# Altium integrated library Linear Technology Power Management Battery Management.IntLib: 626 symbols (part 22 of 56)
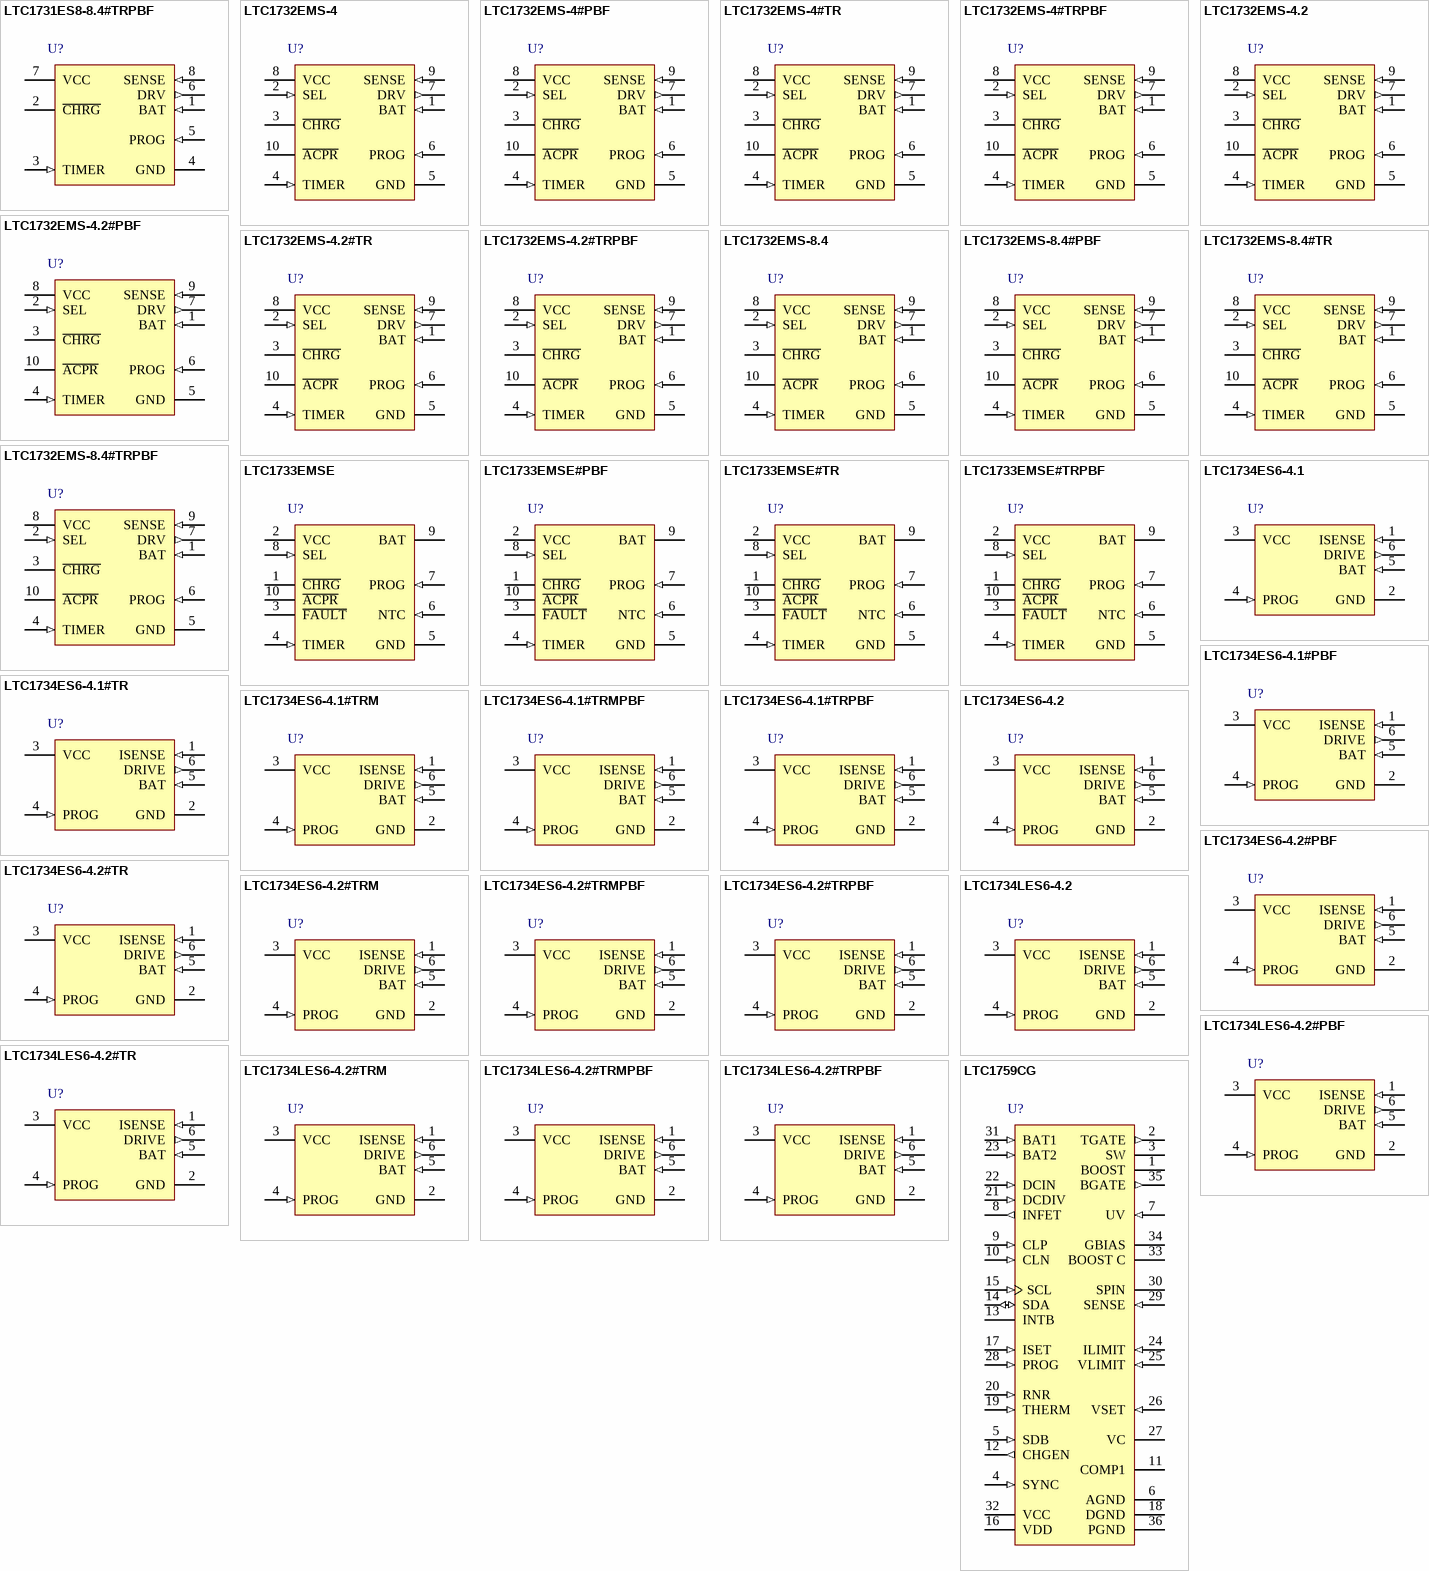
[diagram p43: symbols LTC1731ES8-8.4#TRPBF to LTC1759CG]

## LTC1734ES6-4.2#TRPBF
designator U?
Lithium-Ion Linear Battery Charger, 4.55 to 8 V Vin, 6-pin SOT23 (S6-6), -40 to 85 degC, Pb-Free, Tape and Reel; Manufacturer: Linear Technology; PartNumber: LTC1734ES6-4.2#TRPBF; Battery Chemistry: Li-Ion, Li-Polymer; Charge Termination: Microcontroller; Float Voltage: 4.2 V; Max Charge Current(A): 0.7; Number of Cells: 1; Vin Max(V): 8; Vin Min(V): 4.55; PackageVersion: Jun-10; PackageReference: S6-6; PackageDescription: 6-Pin Plastic TSOT-23, Body 2.9 x 1.63 mm, Pitch 0.95 mm; Supplier 1: Digi-Key; Supplier Part Number 1: LTC1734ES6-4.2#TRPBF-ND; Packing: Tape and Reel; RoHS: TRUE; Type of Charger: Linear; Mounting Technology: Surface Mount; Code_JEDEC: MO-193; ComponentLink1Description: Manufacturer URL; ComponentLink1URL: http://www.linear.com/; ComponentLink2Description: Datasheet; ComponentLink2URL: http://cds.linear.com/docs/en/datasheet/1734fs.pdf; ComponentLink3Description: Package Specification; ComponentLink3URL: http://cds.linear.com/docs/en/packaging/SOT_6_05-08-1636.pdf
footprint LT-S6-6-TSOT-23_N (SOT23, 6-Leads, Body 2.9x1.75mm, Pitch 0.95mm, IPC Medium Density)
footprint LT-S6-6-TSOT-23_L (SOT23, 6-Leads, Body 2.9x1.75mm, Pitch 0.95mm, IPC High Density)
footprint LT-S6-6-TSOT-23_M (SOT23, 6-Leads, Body 2.9x1.75mm, Pitch 0.95mm, IPC Low Density)
pins: 1 ISENSE (in) "Sense Node for Charge Current. Current from VCC passes through the internal current sense resistor and reappears at ISENSE to supply current to the external PNP emitter. The PNP collector provides charge current to the (See Datasheet)", 2 GND (power) "Ground. Provides a reference for the internal voltage regulator and a return for all internal circuits. When in the constant voltage mode, the LTC1734 will precisely regulate the voltage between the BAT and GND pins. The (See Datasheet)", 3 VCC (power) "Positive Input Supply Voltage. Supplies power to the internal control circuitry and external PNP transistor through the internal current sense resistor. This pin should be bypassed to ground with a capacitor in the range of (See Datasheet)", 4 PROG (in) "Charge Current Programming, Charge Current Monitor and manual Shutdown Pin. Provides a virtual reference voltage of 1.5V for an external resistor (RPROG) tied between this pin and ground that programs the battery charge (See Datasheet)", 5 BAT (in) "Battery Voltage Sense Input. A precision internal resistor divider sets the final float voltage on this pin. This divider is disconnected in the manual shutdown or sleep mode. When charging, approximately 34uA flows into the (See Datasheet)", 6 DRIVE (out) "Base Drive Output for the External PNP Pass Transistor. Provides a controlled sink current that drives the base of the PNP. This pin has current limiting protection for the LTC1734"

## LTC1734LES6-4.2
designator U?
Lithium-Ion Linear Battery Charger, 4.55 to 8 V Vin, 6-pin SOT23 (S6-6), -40 to 85 degC; Manufacturer: Linear Technology; PartNumber: LTC1734LES6-4.2; Battery Chemistry: Li-Ion, Li-Polymer; Charge Termination: Microcontroller; Float Voltage: 4.2 V; Max Charge Current(A): 0.18; Number of Cells: 1; Vin Max(V): 8; Vin Min(V): 4.55; PackageVersion: Jun-10; PackageReference: S6-6; PackageDescription: 6-Pin Plastic TSOT-23, Body 2.9 x 1.63 mm, Pitch 0.95 mm; RoHS: FALSE; Type of Charger: Linear; Mounting Technology: Surface Mount; Code_JEDEC: MO-193; ComponentLink1Description: Manufacturer URL; ComponentLink1URL: http://www.linear.com/; ComponentLink2Description: Datasheet; ComponentLink2URL: http://cds.linear.com/docs/en/datasheet/1734lf.pdf; ComponentLink3Description: Package Specification; ComponentLink3URL: http://cds.linear.com/docs/en/packaging/SOT_6_05-08-1636.pdf
footprint LT-S6-6-TSOT-23_N (SOT23, 6-Leads, Body 2.9x1.75mm, Pitch 0.95mm, IPC Medium Density)
footprint LT-S6-6-TSOT-23_L (SOT23, 6-Leads, Body 2.9x1.75mm, Pitch 0.95mm, IPC High Density)
footprint LT-S6-6-TSOT-23_M (SOT23, 6-Leads, Body 2.9x1.75mm, Pitch 0.95mm, IPC Low Density)
pins: 1 ISENSE (in) "Sense Node for Charge Current. Current from VCC passes through the internal current sense resistor and reappears at ISENSE to supply current to the external PNP emitter. The PNP collector provides charge current to the (See Datasheet)", 2 GND (power) "Ground. Provides a reference for the internal voltage regulator and a return for all internal circuits. When in the constant voltage mode, the LTC1734L will precisely regulate the voltage between the BAT and GND pins. The (See Datasheet)", 3 VCC (power) "Positive Input Supply Voltage. Supplies power to the internal control circuitry and external PNP transistor through the internal current sense resistor. This pin should be bypassed to ground with a capacitor in the range of (See Datasheet)", 4 PROG (in) "Charge Current Programming, Charge Current Monitor and manual Shutdown Pin. Provides a virtual reference voltage of 1.5V for an external resistor (RPROG) tied between this pin and ground that programs the battery charge (See Datasheet)", 5 BAT (in) "Battery Voltage Sense Input. A precision internal resistor divider sets the final float voltage on this pin. This divider is disconnected in the manual shutdown or sleep mode. When charging, approximately 34uA flows into the (See Datasheet)", 6 DRIVE (out) "Base Drive Output for the External PNP Pass Transistor. Provides a controlled sink current that drives the base of the PNP. This pin has current limiting protection for the LTC1734L"

## LTC1734LES6-4.2#PBF
designator U?
Lithium-Ion Linear Battery Charger, 4.55 to 8 V Vin, 6-pin SOT23 (S6-6), -40 to 85 degC, Pb-Free; Manufacturer: Linear Technology; PartNumber: LTC1734LES6-4.2#PBF; Battery Chemistry: Li-Ion, Li-Polymer; Charge Termination: Microcontroller; Float Voltage: 4.2 V; Max Charge Current(A): 0.18; Number of Cells: 1; Vin Max(V): 8; Vin Min(V): 4.55; PackageVersion: Jun-10; PackageReference: S6-6; PackageDescription: 6-Pin Plastic TSOT-23, Body 2.9 x 1.63 mm, Pitch 0.95 mm; RoHS: TRUE; Type of Charger: Linear; Mounting Technology: Surface Mount; Code_JEDEC: MO-193; ComponentLink1Description: Manufacturer URL; ComponentLink1URL: http://www.linear.com/; ComponentLink2Description: Datasheet; ComponentLink2URL: http://cds.linear.com/docs/en/datasheet/1734lf.pdf; ComponentLink3Description: Package Specification; ComponentLink3URL: http://cds.linear.com/docs/en/packaging/SOT_6_05-08-1636.pdf
footprint LT-S6-6-TSOT-23_N (SOT23, 6-Leads, Body 2.9x1.75mm, Pitch 0.95mm, IPC Medium Density)
footprint LT-S6-6-TSOT-23_L (SOT23, 6-Leads, Body 2.9x1.75mm, Pitch 0.95mm, IPC High Density)
footprint LT-S6-6-TSOT-23_M (SOT23, 6-Leads, Body 2.9x1.75mm, Pitch 0.95mm, IPC Low Density)
pins: 1 ISENSE (in) "Sense Node for Charge Current. Current from VCC passes through the internal current sense resistor and reappears at ISENSE to supply current to the external PNP emitter. The PNP collector provides charge current to the (See Datasheet)", 2 GND (power) "Ground. Provides a reference for the internal voltage regulator and a return for all internal circuits. When in the constant voltage mode, the LTC1734L will precisely regulate the voltage between the BAT and GND pins. The (See Datasheet)", 3 VCC (power) "Positive Input Supply Voltage. Supplies power to the internal control circuitry and external PNP transistor through the internal current sense resistor. This pin should be bypassed to ground with a capacitor in the range of (See Datasheet)", 4 PROG (in) "Charge Current Programming, Charge Current Monitor and manual Shutdown Pin. Provides a virtual reference voltage of 1.5V for an external resistor (RPROG) tied between this pin and ground that programs the battery charge (See Datasheet)", 5 BAT (in) "Battery Voltage Sense Input. A precision internal resistor divider sets the final float voltage on this pin. This divider is disconnected in the manual shutdown or sleep mode. When charging, approximately 34uA flows into the (See Datasheet)", 6 DRIVE (out) "Base Drive Output for the External PNP Pass Transistor. Provides a controlled sink current that drives the base of the PNP. This pin has current limiting protection for the LTC1734L"

## LTC1734LES6-4.2#TR
designator U?
Lithium-Ion Linear Battery Charger, 4.55 to 8 V Vin, 6-pin SOT23 (S6-6), -40 to 85 degC, Tape and Reel; Manufacturer: Linear Technology; PartNumber: LTC1734LES6-4.2#TR; Battery Chemistry: Li-Ion, Li-Polymer; Charge Termination: Microcontroller; Float Voltage: 4.2 V; Max Charge Current(A): 0.18; Number of Cells: 1; Vin Max(V): 8; Vin Min(V): 4.55; PackageVersion: Jun-10; PackageReference: S6-6; PackageDescription: 6-Pin Plastic TSOT-23, Body 2.9 x 1.63 mm, Pitch 0.95 mm; Supplier 1: Digi-Key; Supplier Part Number 1: LTC1734LES6-4.2TR-ND; Packing: Tape and Reel; RoHS: FALSE; Type of Charger: Linear; Mounting Technology: Surface Mount; Code_JEDEC: MO-193; ComponentLink1Description: Manufacturer URL; ComponentLink1URL: http://www.linear.com/; ComponentLink2Description: Datasheet; ComponentLink2URL: http://cds.linear.com/docs/en/datasheet/1734lf.pdf; ComponentLink3Description: Package Specification; ComponentLink3URL: http://cds.linear.com/docs/en/packaging/SOT_6_05-08-1636.pdf
footprint LT-S6-6-TSOT-23_N (SOT23, 6-Leads, Body 2.9x1.75mm, Pitch 0.95mm, IPC Medium Density)
footprint LT-S6-6-TSOT-23_L (SOT23, 6-Leads, Body 2.9x1.75mm, Pitch 0.95mm, IPC High Density)
footprint LT-S6-6-TSOT-23_M (SOT23, 6-Leads, Body 2.9x1.75mm, Pitch 0.95mm, IPC Low Density)
pins: 1 ISENSE (in) "Sense Node for Charge Current. Current from VCC passes through the internal current sense resistor and reappears at ISENSE to supply current to the external PNP emitter. The PNP collector provides charge current to the (See Datasheet)", 2 GND (power) "Ground. Provides a reference for the internal voltage regulator and a return for all internal circuits. When in the constant voltage mode, the LTC1734L will precisely regulate the voltage between the BAT and GND pins. The (See Datasheet)", 3 VCC (power) "Positive Input Supply Voltage. Supplies power to the internal control circuitry and external PNP transistor through the internal current sense resistor. This pin should be bypassed to ground with a capacitor in the range of (See Datasheet)", 4 PROG (in) "Charge Current Programming, Charge Current Monitor and manual Shutdown Pin. Provides a virtual reference voltage of 1.5V for an external resistor (RPROG) tied between this pin and ground that programs the battery charge (See Datasheet)", 5 BAT (in) "Battery Voltage Sense Input. A precision internal resistor divider sets the final float voltage on this pin. This divider is disconnected in the manual shutdown or sleep mode. When charging, approximately 34uA flows into the (See Datasheet)", 6 DRIVE (out) "Base Drive Output for the External PNP Pass Transistor. Provides a controlled sink current that drives the base of the PNP. This pin has current limiting protection for the LTC1734L"

## LTC1734LES6-4.2#TRM
designator U?
Lithium-Ion Linear Battery Charger, 4.55 to 8 V Vin, 6-pin SOT23 (S6-6), -40 to 85 degC, Mini Tape and Reel; Manufacturer: Linear Technology; PartNumber: LTC1734LES6-4.2#TRM; Battery Chemistry: Li-Ion, Li-Polymer; Charge Termination: Microcontroller; Float Voltage: 4.2 V; Max Charge Current(A): 0.18; Number of Cells: 1; Vin Max(V): 8; Vin Min(V): 4.55; PackageVersion: Jun-10; PackageReference: S6-6; PackageDescription: 6-Pin Plastic TSOT-23, Body 2.9 x 1.63 mm, Pitch 0.95 mm; Supplier 1: Digi-Key; Supplier Part Number 1: LTC1734LES6-4.2#TRMCT-ND; Packing: Mini Tape and Reel; RoHS: FALSE; Type of Charger: Linear; Mounting Technology: Surface Mount; Code_JEDEC: MO-193; ComponentLink1Description: Manufacturer URL; ComponentLink1URL: http://www.linear.com/; ComponentLink2Description: Datasheet; ComponentLink2URL: http://cds.linear.com/docs/en/datasheet/1734lf.pdf; ComponentLink3Description: Package Specification; ComponentLink3URL: http://cds.linear.com/docs/en/packaging/SOT_6_05-08-1636.pdf
footprint LT-S6-6-TSOT-23_N (SOT23, 6-Leads, Body 2.9x1.75mm, Pitch 0.95mm, IPC Medium Density)
footprint LT-S6-6-TSOT-23_L (SOT23, 6-Leads, Body 2.9x1.75mm, Pitch 0.95mm, IPC High Density)
footprint LT-S6-6-TSOT-23_M (SOT23, 6-Leads, Body 2.9x1.75mm, Pitch 0.95mm, IPC Low Density)
pins: 1 ISENSE (in) "Sense Node for Charge Current. Current from VCC passes through the internal current sense resistor and reappears at ISENSE to supply current to the external PNP emitter. The PNP collector provides charge current to the (See Datasheet)", 2 GND (power) "Ground. Provides a reference for the internal voltage regulator and a return for all internal circuits. When in the constant voltage mode, the LTC1734L will precisely regulate the voltage between the BAT and GND pins. The (See Datasheet)", 3 VCC (power) "Positive Input Supply Voltage. Supplies power to the internal control circuitry and external PNP transistor through the internal current sense resistor. This pin should be bypassed to ground with a capacitor in the range of (See Datasheet)", 4 PROG (in) "Charge Current Programming, Charge Current Monitor and manual Shutdown Pin. Provides a virtual reference voltage of 1.5V for an external resistor (RPROG) tied between this pin and ground that programs the battery charge (See Datasheet)", 5 BAT (in) "Battery Voltage Sense Input. A precision internal resistor divider sets the final float voltage on this pin. This divider is disconnected in the manual shutdown or sleep mode. When charging, approximately 34uA flows into the (See Datasheet)", 6 DRIVE (out) "Base Drive Output for the External PNP Pass Transistor. Provides a controlled sink current that drives the base of the PNP. This pin has current limiting protection for the LTC1734L"

## LTC1734LES6-4.2#TRMPBF
designator U?
Lithium-Ion Linear Battery Charger, 4.55 to 8 V Vin, 6-pin SOT23 (S6-6), -40 to 85 degC, Pb-Free, Mini Tape and Reel; Manufacturer: Linear Technology; PartNumber: LTC1734LES6-4.2#TRMPBF; Battery Chemistry: Li-Ion, Li-Polymer; Charge Termination: Microcontroller; Float Voltage: 4.2 V; Max Charge Current(A): 0.18; Number of Cells: 1; Vin Max(V): 8; Vin Min(V): 4.55; PackageVersion: Jun-10; PackageReference: S6-6; PackageDescription: 6-Pin Plastic TSOT-23, Body 2.9 x 1.63 mm, Pitch 0.95 mm; Supplier 1: Digi-Key; Supplier Part Number 1: LTC1734LES6-4.2#TRMPBFTR-ND; Supplier 2: Digi-Key; Supplier Part Number 2: LTC1734LES6-4.2#TRMPBFCT-ND; Supplier 3: Digi-Key; Supplier Part Number 3: LTC1734LES6-4.2#TRMPBFDKR-ND; Supplier 4: Farnell; Supplier Part Number 4: 1663857RL; Supplier 5: Farnell; Supplier Part Number 5: 1663857; Packing: Mini Tape and Reel; RoHS: TRUE; Type of Charger: Linear; Mounting Technology: Surface Mount; Code_JEDEC: MO-193; ComponentLink1Description: Manufacturer URL; ComponentLink1URL: http://www.linear.com/; ComponentLink2Description: Datasheet; ComponentLink2URL: http://cds.linear.com/docs/en/datasheet/1734lf.pdf; ComponentLink3Description: Package Specification; ComponentLink3URL: http://cds.linear.com/docs/en/packaging/SOT_6_05-08-1636.pdf
footprint LT-S6-6-TSOT-23_N (SOT23, 6-Leads, Body 2.9x1.75mm, Pitch 0.95mm, IPC Medium Density)
footprint LT-S6-6-TSOT-23_L (SOT23, 6-Leads, Body 2.9x1.75mm, Pitch 0.95mm, IPC High Density)
footprint LT-S6-6-TSOT-23_M (SOT23, 6-Leads, Body 2.9x1.75mm, Pitch 0.95mm, IPC Low Density)
pins: 1 ISENSE (in) "Sense Node for Charge Current. Current from VCC passes through the internal current sense resistor and reappears at ISENSE to supply current to the external PNP emitter. The PNP collector provides charge current to the (See Datasheet)", 2 GND (power) "Ground. Provides a reference for the internal voltage regulator and a return for all internal circuits. When in the constant voltage mode, the LTC1734L will precisely regulate the voltage between the BAT and GND pins. The (See Datasheet)", 3 VCC (power) "Positive Input Supply Voltage. Supplies power to the internal control circuitry and external PNP transistor through the internal current sense resistor. This pin should be bypassed to ground with a capacitor in the range of (See Datasheet)", 4 PROG (in) "Charge Current Programming, Charge Current Monitor and manual Shutdown Pin. Provides a virtual reference voltage of 1.5V for an external resistor (RPROG) tied between this pin and ground that programs the battery charge (See Datasheet)", 5 BAT (in) "Battery Voltage Sense Input. A precision internal resistor divider sets the final float voltage on this pin. This divider is disconnected in the manual shutdown or sleep mode. When charging, approximately 34uA flows into the (See Datasheet)", 6 DRIVE (out) "Base Drive Output for the External PNP Pass Transistor. Provides a controlled sink current that drives the base of the PNP. This pin has current limiting protection for the LTC1734L"

## LTC1734LES6-4.2#TRPBF
designator U?
Lithium-Ion Linear Battery Charger, 4.55 to 8 V Vin, 6-pin SOT23 (S6-6), -40 to 85 degC, Pb-Free, Tape and Reel; Manufacturer: Linear Technology; PartNumber: LTC1734LES6-4.2#TRPBF; Battery Chemistry: Li-Ion, Li-Polymer; Charge Termination: Microcontroller; Float Voltage: 4.2 V; Max Charge Current(A): 0.18; Number of Cells: 1; Vin Max(V): 8; Vin Min(V): 4.55; PackageVersion: Jun-10; PackageReference: S6-6; PackageDescription: 6-Pin Plastic TSOT-23, Body 2.9 x 1.63 mm, Pitch 0.95 mm; Supplier 1: Digi-Key; Supplier Part Number 1: LTC1734LES6-4.2#TRPBF-ND; Packing: Tape and Reel; RoHS: TRUE; Type of Charger: Linear; Mounting Technology: Surface Mount; Code_JEDEC: MO-193; ComponentLink1Description: Manufacturer URL; ComponentLink1URL: http://www.linear.com/; ComponentLink2Description: Datasheet; ComponentLink2URL: http://cds.linear.com/docs/en/datasheet/1734lf.pdf; ComponentLink3Description: Package Specification; ComponentLink3URL: http://cds.linear.com/docs/en/packaging/SOT_6_05-08-1636.pdf
footprint LT-S6-6-TSOT-23_N (SOT23, 6-Leads, Body 2.9x1.75mm, Pitch 0.95mm, IPC Medium Density)
footprint LT-S6-6-TSOT-23_L (SOT23, 6-Leads, Body 2.9x1.75mm, Pitch 0.95mm, IPC High Density)
footprint LT-S6-6-TSOT-23_M (SOT23, 6-Leads, Body 2.9x1.75mm, Pitch 0.95mm, IPC Low Density)
pins: 1 ISENSE (in) "Sense Node for Charge Current. Current from VCC passes through the internal current sense resistor and reappears at ISENSE to supply current to the external PNP emitter. The PNP collector provides charge current to the (See Datasheet)", 2 GND (power) "Ground. Provides a reference for the internal voltage regulator and a return for all internal circuits. When in the constant voltage mode, the LTC1734L will precisely regulate the voltage between the BAT and GND pins. The (See Datasheet)", 3 VCC (power) "Positive Input Supply Voltage. Supplies power to the internal control circuitry and external PNP transistor through the internal current sense resistor. This pin should be bypassed to ground with a capacitor in the range of (See Datasheet)", 4 PROG (in) "Charge Current Programming, Charge Current Monitor and manual Shutdown Pin. Provides a virtual reference voltage of 1.5V for an external resistor (RPROG) tied between this pin and ground that programs the battery charge (See Datasheet)", 5 BAT (in) "Battery Voltage Sense Input. A precision internal resistor divider sets the final float voltage on this pin. This divider is disconnected in the manual shutdown or sleep mode. When charging, approximately 34uA flows into the (See Datasheet)", 6 DRIVE (out) "Base Drive Output for the External PNP Pass Transistor. Provides a controlled sink current that drives the base of the PNP. This pin has current limiting protection for the LTC1734L"

## LTC1759CG
designator U?
SMBus Charger with Integrated SMBus AcceleratorTM, 6.7 to 26 V Vin, 36-pin SOP (G-36), 0 to 70 degC; Manufacturer: Linear Technology; PartNumber: LTC1759CG; Battery Chemistry: Li-Ion, Li-Polymer, NiCd, NiMH, Lead Acid; Charge Termination: Microcontroller; Float Voltage: Adj; Max Charge Current(A): 8; Number of Cells: 1 to 4 (Li), 1 to 17 (Ni); Type of Charger: Switching, SMBus; Vin Max(V): 26; Vin Min(V): 6.7; PackageReference: G-36; PackageDescription: 36-Pin Plastic SSOP, Body 12.8 x 5.3 mm, Pitch 0.65 mm; Supplier 1: Digi-Key; Supplier Part Number 1: LTC1759CG-ND; RoHS: FALSE; Mounting Technology: Surface Mount; ComponentLink1Description: Manufacturer URL; ComponentLink1URL: http://www.linear.com/; ComponentLink2Description: Datasheet; ComponentLink2URL: http://cds.linear.com/docs/en/datasheet/1759fs.pdf; ComponentLink3Description: Package Specification; ComponentLink3URL: http://cds.linear.com/docs/en/packaging/SSOP_36_05-08-1640.pdf
footprint LT-G-36_N (SOP, 36-Leads, Body 13.1x5.6mm, Pitch 0.65mm, IPC Medium Density)
footprint LT-G-36_L (SOP, 36-Leads, Body 13.1x5.6mm, Pitch 0.65mm, IPC High Density)
footprint LT-G-36_M (SOP, 36-Leads, Body 13.1x5.6mm, Pitch 0.65mm, IPC Low Density)
pins: 1 BOOST "This pin is used to bootstrap and supply power for the topside power switch gate drive and control circuity. In normal operation, VBOOST is powered from an internally generated 8.6V regulator VGBIAS, VBOOST  approx= VCC + 9.(See Datasheet)", 2 TGATE (out) "This pin provides gate drive to the topside power FET. When TGATE is driven on, the gate voltage will be approximately equal to VSW + 6.6V. A series resistor of 5ohm to 10ohm should be used from this pin to the gate of the (See Datasheet)", 3 SW "This pin is the reference point for the floating topside gate drive circuitry. It is the common connection for the top and bottom side switches and the output inductor. This pin switches between ground and VCC with very high (See Datasheet)", 4 SYNC (in) "External Clock Synchronization Input. Pulse width range: 10% to 90%.", 5 SDB (in) "Active Low Digital Input. The charger is disabled when asserted. This pin is connected to the CHGEN pin to enable charger control through the SMBus interface.", 6 AGND (power) "DC Accurate Ground for Analog Circuitry.", 7 UV (in) "Charger Section Undervoltage Lockout Pin. The rising threshold is 6.7V with a hysteresis of 0.5V. Switching stops in undervoltage lockout. Connect this input to the input voltage source with no resistor divider. UV must be (See Datasheet)", 8 INFET (out) "Gate Drive to Input P-channel FET. For very low dropout applications, use an external P-channel FET to connect the adapter output and VCC. INFET is clamped to 7.8V below VCC.", 9 CLP (in) "Positive Input to the Input Current Limit Amplifier CL1. When used to limit supply current, a filter (R3 and C1 of Figure 10) is needed to filter out the switching noise. The threshold is set at 92mV.", 10 CLN (in) "Negative Input to the Input Current Limit Amplifier CL1. It should be connected to VCC (to the VCC bypass capacitor C2 for less noise).", 11 COMP1 "Compensation Node for the Input Current Limit Amplifier CL1. At input adapter current limit, this node rises to 1V. By forcing COMP1 low with an external transistor, amplifier CL1 will be defeated (no adapter current limit). (See Datasheet)", 12 CHGEN (out) "Digital Output to Enable Charger Function. Connect CHGEN to SDB.", 13 INTB (oc) "Active Low Interrupt Output to Host. Signals host that there has been a change of status in the charger registers and that the host should read the LTC1759 status registers to determine if any action on its part is required. (See Datasheet)", 14 SDA (io) "SMBus Data Signal from Main (Hostcontrolled) SMBus.", 15 SCL (in) "SMBus Clock Signal from Main (Host-Controlled) SMBus. External pull-up resistor is required.", 16 VDD (power) "Low Voltage Power Supply Input. Bypass this pin with 0.1uF.", 17 ISET (in) "Open-Drain CMOS Switch to DGND. An external resistor, RSET, is connected from ISET to the current programming input, the PROG pin of the battery charger section, which sets the range of the charging current.", 18 DGND (power) "Ground for Digital Circuitry and DACs. Should be connected to AGND at the negative terminal of the charger output filter capacitor.", 19 THERM (in) "Thermistor Force / Sense Pin to Smart Battery. See Electrical Characteristics table for more detail. Maximum allowed combined capacitance on THERM and RNR is 75pF.", 20 RNR (in) "Thermistor Force / Sense Pin to Smart Battery. See Electrical Characteristics table for more detail. Maximum allowed combined capacitance on THERM and RNR is 75pF.", 21 DCDIV (in) "Supply Divider Input. This is a high impedance comparator input with a 1V threshold (rising edge) and hysteresis.", 22 DCIN (in) "Input connected to the DC input source to monitor the DC input for power-fail condition.", 23 BAT2 (in) "Sensing Point for Voltage Control Loop. Connect this to the positive terminal of the battery.", 24 ILIMIT (in) "An external resistor is connected between this pin and DGND. The value of the external resistor programs the range and resolution of the programmed charger current. See Electrical Characteristics table for more information.", 25 VLIMIT (in) "An external resistor is connected between this pin and DGND. The value of the external resistor programs the range and resolution of the VSET divider. See Electrical Characteristics table for more information.", 26 VSET (in) "This is the tap point of the programmable resistor divider, which provides battery voltage feedback to the charger.", 27 VC "This is the control signal of the inner loop of the current mode PWM. Switching starts at 0.9V. Higher VC corresponds to higher charging current in normal operation. A capacitor of at least 0.33uF to AGND filters out noise (See Datasheet)", 28 PROG (in) "This pin is for programming the charging current and for system loop compensation. During normal operation, the pin voltage is approximately 2.465V.", 29 SENSE (in) "Current Amplifier CA1 Input. Sensing must be at the positive terminal of the battery.", 30 SPIN "This pin is for the internal amplifier CA1 bias. It must be connected to RSENSE as shown in Figure 1.", 31 BAT1 (in) "Current Amplifier CA1 Input.", 32 VCC (power) "Power Input for Battery Charger Section. Bypass this pin with 0.47uF.", 33 BOOST C "This pin is used to bootstrap and supply the current sense amplifier CA1 for very low dropout conditions. VCC can be as low as only 0.4V above the battery voltage. A diode and a capacitor are needed to get the voltage from (See Datasheet)", 34 GBIAS (power) "8.6V Regulator Output for Bootstrapping VBOOST and VBOOSTC. A bypass capacitor of at least 2uF is needed. Switching will stop if VBOOST drops below 7.1V.", 35 BGATE (out) "Drives the gate of the bottom external N-channel FET of the charger buck converter.", 36 PGND (power) "High Current Ground Return for Charger Gate Drivers."

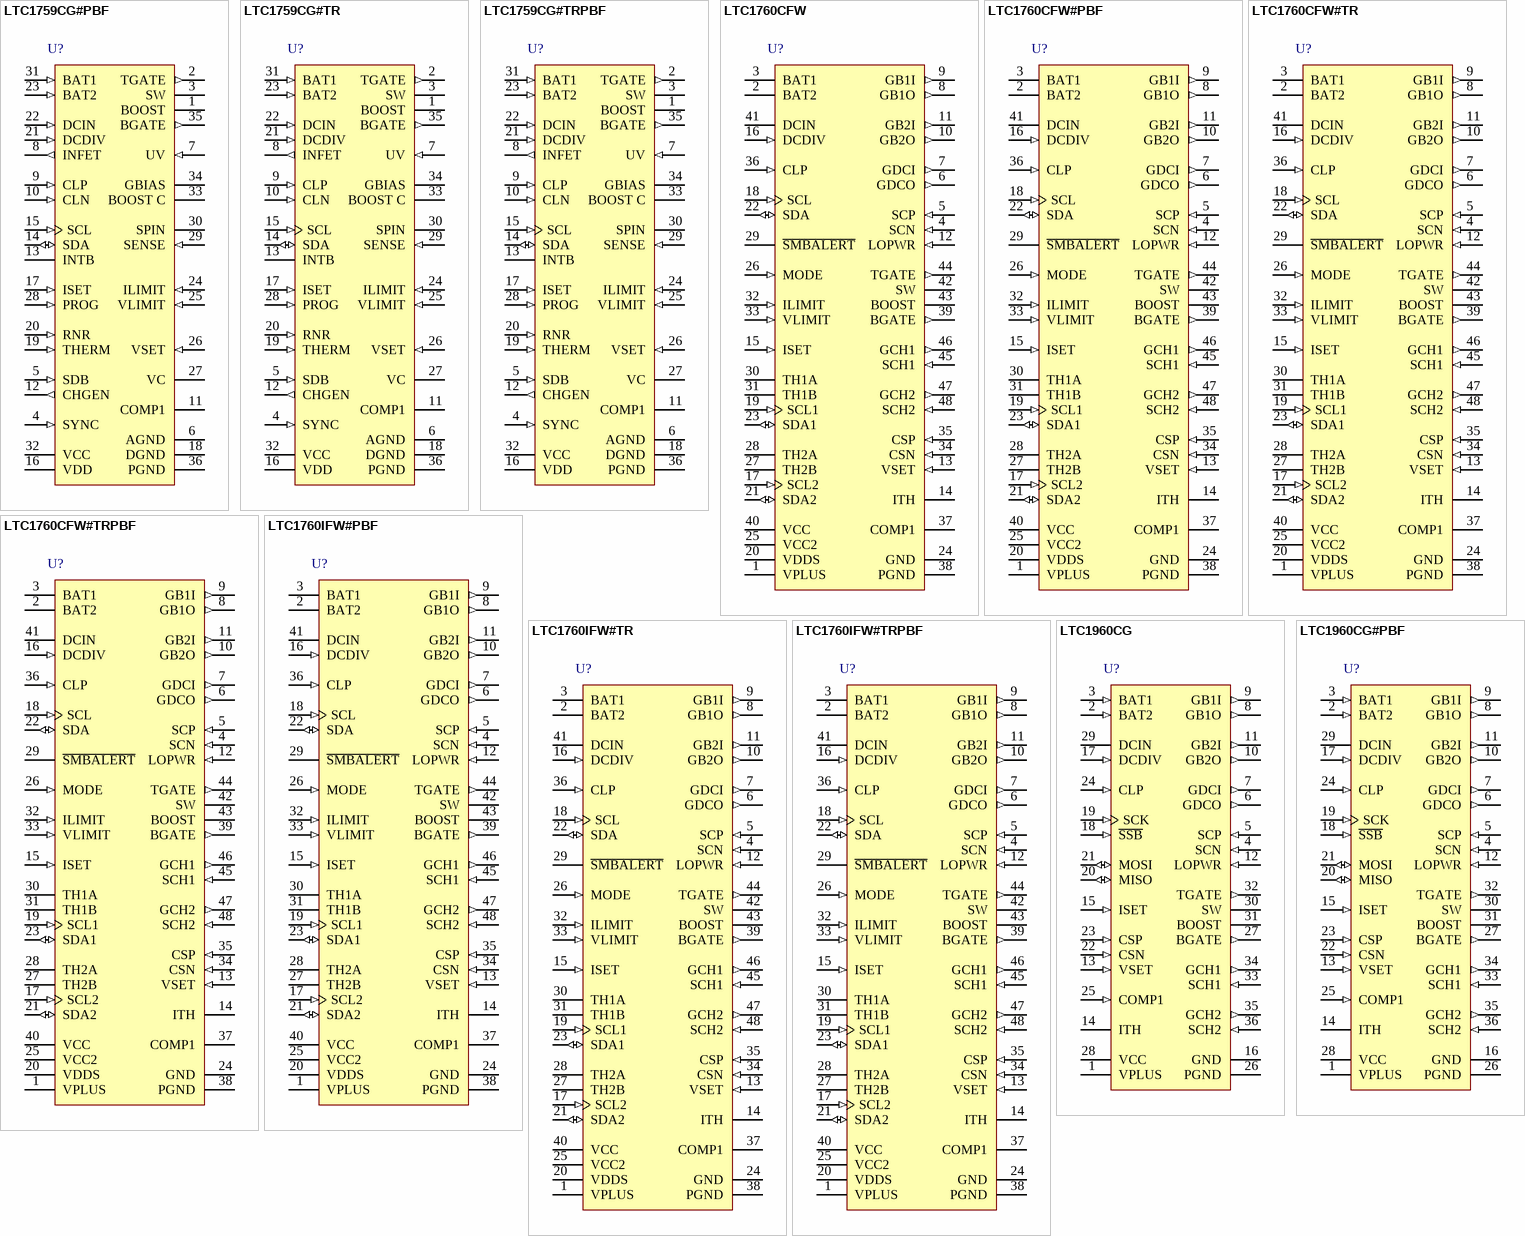
[diagram p9: symbols LTC1759CG#PBF to LTC1960CG#PBF]

## LTC1759CG#PBF
designator U?
SMBus Charger with Integrated SMBus AcceleratorTM, 6.7 to 26 V Vin, 36-pin SOP (G-36), 0 to 70 degC, Pb-Free; Manufacturer: Linear Technology; PartNumber: LTC1759CG#PBF; Battery Chemistry: Li-Ion, Li-Polymer, NiCd, NiMH, Lead Acid; Charge Termination: Microcontroller; Float Voltage: Adj; Max Charge Current(A): 8; Number of Cells: 1 to 4 (Li), 1 to 17 (Ni); Type of Charger: Switching, SMBus; Vin Max(V): 26; Vin Min(V): 6.7; PackageReference: G-36; PackageDescription: 36-Pin Plastic SSOP, Body 12.8 x 5.3 mm, Pitch 0.65 mm; Supplier 1: Digi-Key; Supplier Part Number 1: LTC1759CG#PBF-ND; Supplier 2: Farnell; Supplier Part Number 2: 1648018; Supplier 3: Newark; Supplier Part Number 3: 58M0701; RoHS: TRUE; Mounting Technology: Surface Mount; ComponentLink1Description: Manufacturer URL; ComponentLink1URL: http://www.linear.com/; ComponentLink2Description: Datasheet; ComponentLink2URL: http://cds.linear.com/docs/en/datasheet/1759fs.pdf; ComponentLink3Description: Package Specification; ComponentLink3URL: http://cds.linear.com/docs/en/packaging/SSOP_36_05-08-1640.pdf
footprint LT-G-36_N (SOP, 36-Leads, Body 13.1x5.6mm, Pitch 0.65mm, IPC Medium Density)
footprint LT-G-36_L (SOP, 36-Leads, Body 13.1x5.6mm, Pitch 0.65mm, IPC High Density)
footprint LT-G-36_M (SOP, 36-Leads, Body 13.1x5.6mm, Pitch 0.65mm, IPC Low Density)
pins: 1 BOOST "This pin is used to bootstrap and supply power for the topside power switch gate drive and control circuity. In normal operation, VBOOST is powered from an internally generated 8.6V regulator VGBIAS, VBOOST  approx= VCC + 9.(See Datasheet)", 2 TGATE (out) "This pin provides gate drive to the topside power FET. When TGATE is driven on, the gate voltage will be approximately equal to VSW + 6.6V. A series resistor of 5ohm to 10ohm should be used from this pin to the gate of the (See Datasheet)", 3 SW "This pin is the reference point for the floating topside gate drive circuitry. It is the common connection for the top and bottom side switches and the output inductor. This pin switches between ground and VCC with very high (See Datasheet)", 4 SYNC (in) "External Clock Synchronization Input. Pulse width range: 10% to 90%.", 5 SDB (in) "Active Low Digital Input. The charger is disabled when asserted. This pin is connected to the CHGEN pin to enable charger control through the SMBus interface.", 6 AGND (power) "DC Accurate Ground for Analog Circuitry.", 7 UV (in) "Charger Section Undervoltage Lockout Pin. The rising threshold is 6.7V with a hysteresis of 0.5V. Switching stops in undervoltage lockout. Connect this input to the input voltage source with no resistor divider. UV must be (See Datasheet)", 8 INFET (out) "Gate Drive to Input P-channel FET. For very low dropout applications, use an external P-channel FET to connect the adapter output and VCC. INFET is clamped to 7.8V below VCC.", 9 CLP (in) "Positive Input to the Input Current Limit Amplifier CL1. When used to limit supply current, a filter (R3 and C1 of Figure 10) is needed to filter out the switching noise. The threshold is set at 92mV.", 10 CLN (in) "Negative Input to the Input Current Limit Amplifier CL1. It should be connected to VCC (to the VCC bypass capacitor C2 for less noise).", 11 COMP1 "Compensation Node for the Input Current Limit Amplifier CL1. At input adapter current limit, this node rises to 1V. By forcing COMP1 low with an external transistor, amplifier CL1 will be defeated (no adapter current limit). (See Datasheet)", 12 CHGEN (out) "Digital Output to Enable Charger Function. Connect CHGEN to SDB.", 13 INTB (oc) "Active Low Interrupt Output to Host. Signals host that there has been a change of status in the charger registers and that the host should read the LTC1759 status registers to determine if any action on its part is required. (See Datasheet)", 14 SDA (io) "SMBus Data Signal from Main (Hostcontrolled) SMBus.", 15 SCL (in) "SMBus Clock Signal from Main (Host-Controlled) SMBus. External pull-up resistor is required.", 16 VDD (power) "Low Voltage Power Supply Input. Bypass this pin with 0.1uF.", 17 ISET (in) "Open-Drain CMOS Switch to DGND. An external resistor, RSET, is connected from ISET to the current programming input, the PROG pin of the battery charger section, which sets the range of the charging current.", 18 DGND (power) "Ground for Digital Circuitry and DACs. Should be connected to AGND at the negative terminal of the charger output filter capacitor.", 19 THERM (in) "Thermistor Force / Sense Pin to Smart Battery. See Electrical Characteristics table for more detail. Maximum allowed combined capacitance on THERM and RNR is 75pF.", 20 RNR (in) "Thermistor Force / Sense Pin to Smart Battery. See Electrical Characteristics table for more detail. Maximum allowed combined capacitance on THERM and RNR is 75pF.", 21 DCDIV (in) "Supply Divider Input. This is a high impedance comparator input with a 1V threshold (rising edge) and hysteresis.", 22 DCIN (in) "Input connected to the DC input source to monitor the DC input for power-fail condition.", 23 BAT2 (in) "Sensing Point for Voltage Control Loop. Connect this to the positive terminal of the battery.", 24 ILIMIT (in) "An external resistor is connected between this pin and DGND. The value of the external resistor programs the range and resolution of the programmed charger current. See Electrical Characteristics table for more information.", 25 VLIMIT (in) "An external resistor is connected between this pin and DGND. The value of the external resistor programs the range and resolution of the VSET divider. See Electrical Characteristics table for more information.", 26 VSET (in) "This is the tap point of the programmable resistor divider, which provides battery voltage feedback to the charger.", 27 VC "This is the control signal of the inner loop of the current mode PWM. Switching starts at 0.9V. Higher VC corresponds to higher charging current in normal operation. A capacitor of at least 0.33uF to AGND filters out noise (See Datasheet)", 28 PROG (in) "This pin is for programming the charging current and for system loop compensation. During normal operation, the pin voltage is approximately 2.465V.", 29 SENSE (in) "Current Amplifier CA1 Input. Sensing must be at the positive terminal of the battery.", 30 SPIN "This pin is for the internal amplifier CA1 bias. It must be connected to RSENSE as shown in Figure 1.", 31 BAT1 (in) "Current Amplifier CA1 Input.", 32 VCC (power) "Power Input for Battery Charger Section. Bypass this pin with 0.47uF.", 33 BOOST C "This pin is used to bootstrap and supply the current sense amplifier CA1 for very low dropout conditions. VCC can be as low as only 0.4V above the battery voltage. A diode and a capacitor are needed to get the voltage from (See Datasheet)", 34 GBIAS (power) "8.6V Regulator Output for Bootstrapping VBOOST and VBOOSTC. A bypass capacitor of at least 2uF is needed. Switching will stop if VBOOST drops below 7.1V.", 35 BGATE (out) "Drives the gate of the bottom external N-channel FET of the charger buck converter.", 36 PGND (power) "High Current Ground Return for Charger Gate Drivers."

## LTC1759CG#TR
designator U?
SMBus Charger with Integrated SMBus AcceleratorTM, 6.7 to 26 V Vin, 36-pin SOP (G-36), 0 to 70 degC, Tape and Reel; Manufacturer: Linear Technology; PartNumber: LTC1759CG#TR; Battery Chemistry: Li-Ion, Li-Polymer, NiCd, NiMH, Lead Acid; Charge Termination: Microcontroller; Float Voltage: Adj; Max Charge Current(A): 8; Number of Cells: 1 to 4 (Li), 1 to 17 (Ni); Type of Charger: Switching, SMBus; Vin Max(V): 26; Vin Min(V): 6.7; PackageReference: G-36; PackageDescription: 36-Pin Plastic SSOP, Body 12.8 x 5.3 mm, Pitch 0.65 mm; Supplier 1: Digi-Key; Supplier Part Number 1: LTC1759CG#TR-ND; Packing: Tape and Reel; RoHS: FALSE; Mounting Technology: Surface Mount; ComponentLink1Description: Manufacturer URL; ComponentLink1URL: http://www.linear.com/; ComponentLink2Description: Datasheet; ComponentLink2URL: http://cds.linear.com/docs/en/datasheet/1759fs.pdf; ComponentLink3Description: Package Specification; ComponentLink3URL: http://cds.linear.com/docs/en/packaging/SSOP_36_05-08-1640.pdf
footprint LT-G-36_N (SOP, 36-Leads, Body 13.1x5.6mm, Pitch 0.65mm, IPC Medium Density)
footprint LT-G-36_L (SOP, 36-Leads, Body 13.1x5.6mm, Pitch 0.65mm, IPC High Density)
footprint LT-G-36_M (SOP, 36-Leads, Body 13.1x5.6mm, Pitch 0.65mm, IPC Low Density)
pins: 1 BOOST "This pin is used to bootstrap and supply power for the topside power switch gate drive and control circuity. In normal operation, VBOOST is powered from an internally generated 8.6V regulator VGBIAS, VBOOST  approx= VCC + 9.(See Datasheet)", 2 TGATE (out) "This pin provides gate drive to the topside power FET. When TGATE is driven on, the gate voltage will be approximately equal to VSW + 6.6V. A series resistor of 5ohm to 10ohm should be used from this pin to the gate of the (See Datasheet)", 3 SW "This pin is the reference point for the floating topside gate drive circuitry. It is the common connection for the top and bottom side switches and the output inductor. This pin switches between ground and VCC with very high (See Datasheet)", 4 SYNC (in) "External Clock Synchronization Input. Pulse width range: 10% to 90%.", 5 SDB (in) "Active Low Digital Input. The charger is disabled when asserted. This pin is connected to the CHGEN pin to enable charger control through the SMBus interface.", 6 AGND (power) "DC Accurate Ground for Analog Circuitry.", 7 UV (in) "Charger Section Undervoltage Lockout Pin. The rising threshold is 6.7V with a hysteresis of 0.5V. Switching stops in undervoltage lockout. Connect this input to the input voltage source with no resistor divider. UV must be (See Datasheet)", 8 INFET (out) "Gate Drive to Input P-channel FET. For very low dropout applications, use an external P-channel FET to connect the adapter output and VCC. INFET is clamped to 7.8V below VCC.", 9 CLP (in) "Positive Input to the Input Current Limit Amplifier CL1. When used to limit supply current, a filter (R3 and C1 of Figure 10) is needed to filter out the switching noise. The threshold is set at 92mV.", 10 CLN (in) "Negative Input to the Input Current Limit Amplifier CL1. It should be connected to VCC (to the VCC bypass capacitor C2 for less noise).", 11 COMP1 "Compensation Node for the Input Current Limit Amplifier CL1. At input adapter current limit, this node rises to 1V. By forcing COMP1 low with an external transistor, amplifier CL1 will be defeated (no adapter current limit). (See Datasheet)", 12 CHGEN (out) "Digital Output to Enable Charger Function. Connect CHGEN to SDB.", 13 INTB (oc) "Active Low Interrupt Output to Host. Signals host that there has been a change of status in the charger registers and that the host should read the LTC1759 status registers to determine if any action on its part is required. (See Datasheet)", 14 SDA (io) "SMBus Data Signal from Main (Hostcontrolled) SMBus.", 15 SCL (in) "SMBus Clock Signal from Main (Host-Controlled) SMBus. External pull-up resistor is required.", 16 VDD (power) "Low Voltage Power Supply Input. Bypass this pin with 0.1uF.", 17 ISET (in) "Open-Drain CMOS Switch to DGND. An external resistor, RSET, is connected from ISET to the current programming input, the PROG pin of the battery charger section, which sets the range of the charging current.", 18 DGND (power) "Ground for Digital Circuitry and DACs. Should be connected to AGND at the negative terminal of the charger output filter capacitor.", 19 THERM (in) "Thermistor Force / Sense Pin to Smart Battery. See Electrical Characteristics table for more detail. Maximum allowed combined capacitance on THERM and RNR is 75pF.", 20 RNR (in) "Thermistor Force / Sense Pin to Smart Battery. See Electrical Characteristics table for more detail. Maximum allowed combined capacitance on THERM and RNR is 75pF.", 21 DCDIV (in) "Supply Divider Input. This is a high impedance comparator input with a 1V threshold (rising edge) and hysteresis.", 22 DCIN (in) "Input connected to the DC input source to monitor the DC input for power-fail condition.", 23 BAT2 (in) "Sensing Point for Voltage Control Loop. Connect this to the positive terminal of the battery.", 24 ILIMIT (in) "An external resistor is connected between this pin and DGND. The value of the external resistor programs the range and resolution of the programmed charger current. See Electrical Characteristics table for more information.", 25 VLIMIT (in) "An external resistor is connected between this pin and DGND. The value of the external resistor programs the range and resolution of the VSET divider. See Electrical Characteristics table for more information.", 26 VSET (in) "This is the tap point of the programmable resistor divider, which provides battery voltage feedback to the charger.", 27 VC "This is the control signal of the inner loop of the current mode PWM. Switching starts at 0.9V. Higher VC corresponds to higher charging current in normal operation. A capacitor of at least 0.33uF to AGND filters out noise (See Datasheet)", 28 PROG (in) "This pin is for programming the charging current and for system loop compensation. During normal operation, the pin voltage is approximately 2.465V.", 29 SENSE (in) "Current Amplifier CA1 Input. Sensing must be at the positive terminal of the battery.", 30 SPIN "This pin is for the internal amplifier CA1 bias. It must be connected to RSENSE as shown in Figure 1.", 31 BAT1 (in) "Current Amplifier CA1 Input.", 32 VCC (power) "Power Input for Battery Charger Section. Bypass this pin with 0.47uF.", 33 BOOST C "This pin is used to bootstrap and supply the current sense amplifier CA1 for very low dropout conditions. VCC can be as low as only 0.4V above the battery voltage. A diode and a capacitor are needed to get the voltage from (See Datasheet)", 34 GBIAS (power) "8.6V Regulator Output for Bootstrapping VBOOST and VBOOSTC. A bypass capacitor of at least 2uF is needed. Switching will stop if VBOOST drops below 7.1V.", 35 BGATE (out) "Drives the gate of the bottom external N-channel FET of the charger buck converter.", 36 PGND (power) "High Current Ground Return for Charger Gate Drivers."

## LTC1759CG#TRPBF
designator U?
SMBus Charger with Integrated SMBus AcceleratorTM, 6.7 to 26 V Vin, 36-pin SOP (G-36), 0 to 70 degC, Pb-Free, Tape and Reel; Manufacturer: Linear Technology; PartNumber: LTC1759CG#TRPBF; Battery Chemistry: Li-Ion, Li-Polymer, NiCd, NiMH, Lead Acid; Charge Termination: Microcontroller; Float Voltage: Adj; Max Charge Current(A): 8; Number of Cells: 1 to 4 (Li), 1 to 17 (Ni); Type of Charger: Switching, SMBus; Vin Max(V): 26; Vin Min(V): 6.7; PackageReference: G-36; PackageDescription: 36-Pin Plastic SSOP, Body 12.8 x 5.3 mm, Pitch 0.65 mm; Supplier 1: Digi-Key; Supplier Part Number 1: LTC1759CG#TRPBF-ND; Packing: Tape and Reel; RoHS: TRUE; Mounting Technology: Surface Mount; ComponentLink1Description: Manufacturer URL; ComponentLink1URL: http://www.linear.com/; ComponentLink2Description: Datasheet; ComponentLink2URL: http://cds.linear.com/docs/en/datasheet/1759fs.pdf; ComponentLink3Description: Package Specification; ComponentLink3URL: http://cds.linear.com/docs/en/packaging/SSOP_36_05-08-1640.pdf
footprint LT-G-36_N (SOP, 36-Leads, Body 13.1x5.6mm, Pitch 0.65mm, IPC Medium Density)
footprint LT-G-36_L (SOP, 36-Leads, Body 13.1x5.6mm, Pitch 0.65mm, IPC High Density)
footprint LT-G-36_M (SOP, 36-Leads, Body 13.1x5.6mm, Pitch 0.65mm, IPC Low Density)
pins: 1 BOOST "This pin is used to bootstrap and supply power for the topside power switch gate drive and control circuity. In normal operation, VBOOST is powered from an internally generated 8.6V regulator VGBIAS, VBOOST  approx= VCC + 9.(See Datasheet)", 2 TGATE (out) "This pin provides gate drive to the topside power FET. When TGATE is driven on, the gate voltage will be approximately equal to VSW + 6.6V. A series resistor of 5ohm to 10ohm should be used from this pin to the gate of the (See Datasheet)", 3 SW "This pin is the reference point for the floating topside gate drive circuitry. It is the common connection for the top and bottom side switches and the output inductor. This pin switches between ground and VCC with very high (See Datasheet)", 4 SYNC (in) "External Clock Synchronization Input. Pulse width range: 10% to 90%.", 5 SDB (in) "Active Low Digital Input. The charger is disabled when asserted. This pin is connected to the CHGEN pin to enable charger control through the SMBus interface.", 6 AGND (power) "DC Accurate Ground for Analog Circuitry.", 7 UV (in) "Charger Section Undervoltage Lockout Pin. The rising threshold is 6.7V with a hysteresis of 0.5V. Switching stops in undervoltage lockout. Connect this input to the input voltage source with no resistor divider. UV must be (See Datasheet)", 8 INFET (out) "Gate Drive to Input P-channel FET. For very low dropout applications, use an external P-channel FET to connect the adapter output and VCC. INFET is clamped to 7.8V below VCC.", 9 CLP (in) "Positive Input to the Input Current Limit Amplifier CL1. When used to limit supply current, a filter (R3 and C1 of Figure 10) is needed to filter out the switching noise. The threshold is set at 92mV.", 10 CLN (in) "Negative Input to the Input Current Limit Amplifier CL1. It should be connected to VCC (to the VCC bypass capacitor C2 for less noise).", 11 COMP1 "Compensation Node for the Input Current Limit Amplifier CL1. At input adapter current limit, this node rises to 1V. By forcing COMP1 low with an external transistor, amplifier CL1 will be defeated (no adapter current limit). (See Datasheet)", 12 CHGEN (out) "Digital Output to Enable Charger Function. Connect CHGEN to SDB.", 13 INTB (oc) "Active Low Interrupt Output to Host. Signals host that there has been a change of status in the charger registers and that the host should read the LTC1759 status registers to determine if any action on its part is required. (See Datasheet)", 14 SDA (io) "SMBus Data Signal from Main (Hostcontrolled) SMBus.", 15 SCL (in) "SMBus Clock Signal from Main (Host-Controlled) SMBus. External pull-up resistor is required.", 16 VDD (power) "Low Voltage Power Supply Input. Bypass this pin with 0.1uF.", 17 ISET (in) "Open-Drain CMOS Switch to DGND. An external resistor, RSET, is connected from ISET to the current programming input, the PROG pin of the battery charger section, which sets the range of the charging current.", 18 DGND (power) "Ground for Digital Circuitry and DACs. Should be connected to AGND at the negative terminal of the charger output filter capacitor.", 19 THERM (in) "Thermistor Force / Sense Pin to Smart Battery. See Electrical Characteristics table for more detail. Maximum allowed combined capacitance on THERM and RNR is 75pF.", 20 RNR (in) "Thermistor Force / Sense Pin to Smart Battery. See Electrical Characteristics table for more detail. Maximum allowed combined capacitance on THERM and RNR is 75pF.", 21 DCDIV (in) "Supply Divider Input. This is a high impedance comparator input with a 1V threshold (rising edge) and hysteresis.", 22 DCIN (in) "Input connected to the DC input source to monitor the DC input for power-fail condition.", 23 BAT2 (in) "Sensing Point for Voltage Control Loop. Connect this to the positive terminal of the battery.", 24 ILIMIT (in) "An external resistor is connected between this pin and DGND. The value of the external resistor programs the range and resolution of the programmed charger current. See Electrical Characteristics table for more information.", 25 VLIMIT (in) "An external resistor is connected between this pin and DGND. The value of the external resistor programs the range and resolution of the VSET divider. See Electrical Characteristics table for more information.", 26 VSET (in) "This is the tap point of the programmable resistor divider, which provides battery voltage feedback to the charger.", 27 VC "This is the control signal of the inner loop of the current mode PWM. Switching starts at 0.9V. Higher VC corresponds to higher charging current in normal operation. A capacitor of at least 0.33uF to AGND filters out noise (See Datasheet)", 28 PROG (in) "This pin is for programming the charging current and for system loop compensation. During normal operation, the pin voltage is approximately 2.465V.", 29 SENSE (in) "Current Amplifier CA1 Input. Sensing must be at the positive terminal of the battery.", 30 SPIN "This pin is for the internal amplifier CA1 bias. It must be connected to RSENSE as shown in Figure 1.", 31 BAT1 (in) "Current Amplifier CA1 Input.", 32 VCC (power) "Power Input for Battery Charger Section. Bypass this pin with 0.47uF.", 33 BOOST C "This pin is used to bootstrap and supply the current sense amplifier CA1 for very low dropout conditions. VCC can be as low as only 0.4V above the battery voltage. A diode and a capacitor are needed to get the voltage from (See Datasheet)", 34 GBIAS (power) "8.6V Regulator Output for Bootstrapping VBOOST and VBOOSTC. A bypass capacitor of at least 2uF is needed. Switching will stop if VBOOST drops below 7.1V.", 35 BGATE (out) "Drives the gate of the bottom external N-channel FET of the charger buck converter.", 36 PGND (power) "High Current Ground Return for Charger Gate Drivers."